# EAGLE library part SAMTEC-TSM-106-01-X-SV_SAMTEC-TSM-106-01-X-SV (library TAStm32_v4)
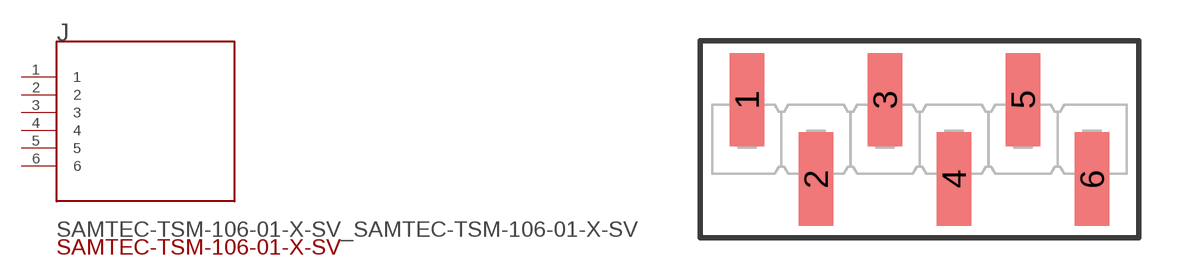
[diagram p1: symbol with the pads of SAMTEC-TSM-106-01-X-SV_SAMTEC-TSM-106-01-X-SV; footprint SAMTEC-TSM-106-01-X-SV_SAMTEC-TSM-106-01-X-SV]

Designator prefix J

## SAMTEC-TSM-106-01-X-SV_SAMTEC-TSM-106-01-X-SVJ (AVAILABILITY: Unavailable; DESCRIPTION: Connector Header Surface Mount 6 position 0.100 _2.54mm_; MF: Samtec; MP: TSM-106-01-L-SV; PACKAGE: None; PRICE: None)  [SAMTEC-TSM-106-01-X-SV_SAMTEC-TSM-106-01-X-SV]
1  1
2  2
3  3
4  4
5  5
6  6

## Footprint SAMTEC-TSM-106-01-X-SV_SAMTEC-TSM-106-01-X-SV (pad centres in mm)
translated Allegro footprint
smd 1.27 x 3.43: 1 -6.35,1.46; 2 -3.81,-1.46; 3 -1.27,1.46; 4 1.27,-1.46; 5 3.81,1.46; 6 6.35,-1.46